# Altium footprint library Switches.PcbLib: 6 footprints
Each footprint in its own frame and in the unit in brackets; x right, y up, seen from the top. Pads: shape width x height; smd on the part's side, far side on the other; paste and mask are expansions set on the pad; w line width, h text height; cw(c..) or ccw(c..) is an arc to the next point about the centre after c.
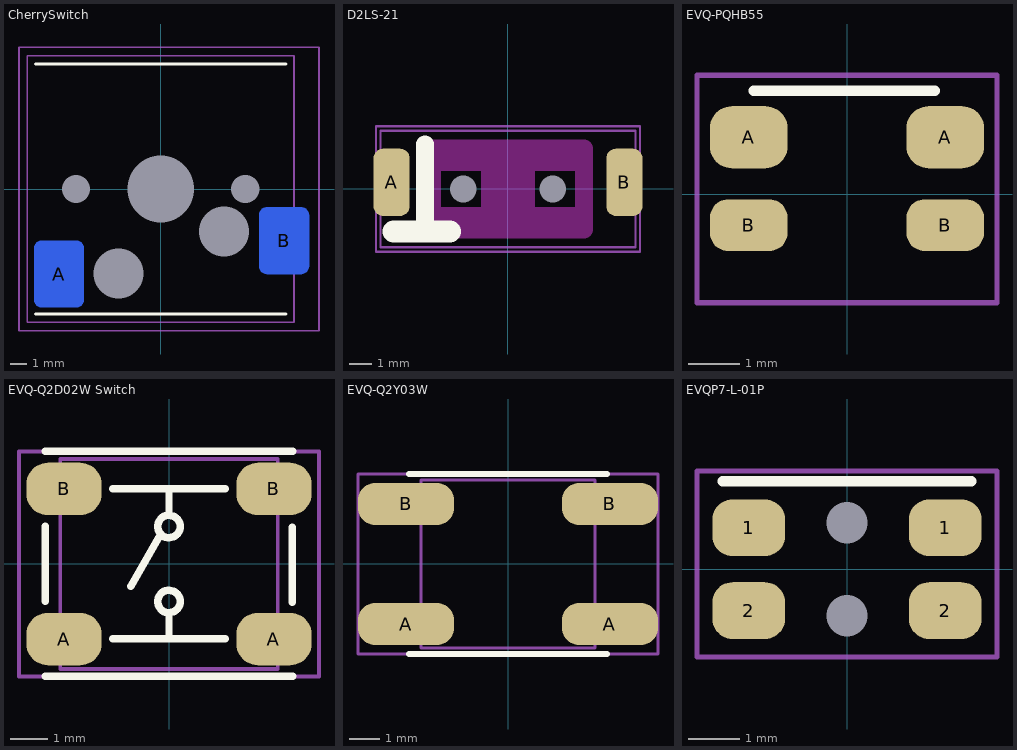
[diagram p0: the footprints below, top view; thin cyan lines are the x and y axes]

## CherrySwitch [mm]
height 3
pads (7):
  rrect30% 3x4 smd far side paste-0.15: A(-6.1,-5.1) B(7.4,-3.1)
  round 0 hole 1.7: ""(-5.08,0) ""(5.08,0)
  round 0 hole 3: ""(-2.54,-5.08) ""(3.81,-2.54)
  round 0 hole 4: ""(0,0)
Top Overlay:
  lines w0.2: -7.5,-7.5 7.5,-7.5 ; -7.5,7.5 7.5,7.5
Mechanical 15:
  lines w0.1: -8.5,-8.5 9.5,-8.5 9.5,8.5 -8.5,8.5 -8.5,-8.5
Assembly:
  lines w0.1: -8,-8 -8,8 8,8 8,-8 -8,-8
  text ".Designator" at -2.5,3 h1.1
3D body "MX Series-Cherry Key.stp": height 15.4, standoff -3.2, extent -7.8,-7.8 7.8,7.8
3D body "Kailh-Hotswap-from-datasheet.stp": height 0.05, standoff -3, extent -6.611,-6.716 7.889,-0.826

## D2LS-21 [mm]
height 3
pads (4):
  rrect50% 1.6x3 smd paste-0.04: A(-5.2,0.3) B(5.2,0.3)
  round 0 hole 1.2 unplated: ""(-2,0) ""(2,0)
Top Layer keep-out:
  lines w0.8: -3.4,-1.2 3.4,-1.2 ; -3.4,1.2 3.4,1.2 ; -0.8,-1.8 -0.8,1.8 ; 0,-1.7 0,1.8 ; 0.8,-1.7 0.8,1.8 ; -3.4,-1.8 3.4,-1.8 3.4,1.8 -3.4,1.8 -3.4,-1.8
Top Overlay:
  lines w0.8: -3.7,-2 -3.7,2
  lines w1: -5.1,-1.9 -2.6,-1.9
Top Solder:
  region: -3.4,2.1 3.4,2.1 3.46,2.1 3.57,2.054 3.654,1.97 3.7,1.86 3.7,1.8 3.7,-1.8 3.7,-1.86 3.654,-1.97 3.57,-2.054 3.46,-2.1 3.4,-2.1 -3.4,-2.1 -3.46,-2.1 -3.57,-2.054 -3.654,-1.97 -3.7,-1.86 -3.7,-1.8 -3.7,1.8 -3.7,1.86 -3.654,1.97 -3.57,2.054 -3.46,2.1
Mechanical 15:
  lines w0.1: -5.9,-2.8 5.9,-2.8 5.9,2.8 -5.9,2.8 -5.9,-2.8
Assembly:
  lines w0.1: -5.7,-2.6 -5.7,2.6 5.7,2.6 5.7,-2.6 -5.7,-2.6
  text ".Designator" at -5,-0.3 h1.1
3D body "D2LS_21.step": height 3.19, standoff -0.6, extent -5.6,-2.4 5.6,2.4

## EVQ-PQHB55 [mm]
height 2.4
pads (4):
  rrect70% 1.5x1.2 smd paste-0.06: A(-1.9,1.1) A(1.9,1.1)
  rrect70% 1.5x1 smd paste-0.06: B(-1.9,-0.6) B(1.9,-0.6)
Top Overlay:
  lines w0.2: -1.8,2 1.7,2
Mechanical 15:
  lines w0.1: -2.9,-2.1 2.9,-2.1 2.9,2.3 -2.9,2.3 -2.9,-2.1
Assembly:
  lines w0.1: -2.9,-2.1 -2.9,2.3 2.9,2.3 2.9,-2.1 -2.9,-2.1
  text ".Designator" at -2.1,-0.3 h1.1
3D body "EVQP7-JA-01P.STEP": height 1.35, standoff 0, extent -2.35,-1.9 2.35,1.65

## EVQ-Q2D02W Switch [mm] "Alternately: EVQP0N02B, EVQP0P02B, EVQQ2B02W"
height 2.5
pads (4):
  rrect80% 2x1.4 smd paste-0.08: A(-2.8,-2) A(2.8,-2) B(-2.8,2) B(2.8,2)
Top Overlay:
  circle w0.2: c0,-1 r0.3
  circle w0.2: c0,1 r0.3
  lines w0.2: -3.3,-3 3.3,-3 ; -3.3,-1 -3.3,1 ; -3.3,3 3.3,3 ; -1.5,-2 0,-2 ; -1.5,2 0,2 ; -1.025,-0.6 -0.225,0.8 ; 0,-1.4 0,-2 ; 0,1.4 0,2 ; 1.5,-2 0,-2 ; 1.5,2 0,2 ; 3.291,-1.02 3.291,0.98
Mechanical 15:
  lines w0.1: -2.9,-2.8 2.9,-2.8 2.9,2.8 -2.9,2.8 -2.9,-2.8
Assembly:
  lines w0.1: -4,-3 4,-3 4,3 -4,3 -4,-3
  text ".Designator" at -2.1,-0.3 h1.1
3D body "evqq2-dhmsw2-02w_.step": height 2.5, standoff 0, extent -3.3,-3 3.3,3

## EVQ-Q2Y03W [mm]
height 2.4
pads (4):
  rrect80% 3.2x1.4 smd paste-0.08: A(-3.4,-2) A(3.4,-2) B(-3.4,2) B(3.4,2)
Top Overlay:
  lines w0.2: -3.3,-3 3.3,-3 ; -3.3,3 3.3,3
Mechanical 15:
  lines w0.1: -2.9,-2.8 2.9,-2.8 2.9,2.8 -2.9,2.8 -2.9,-2.8
Assembly:
  lines w0.1: -5,-3 5,-3 5,3 -5,3 -5,-3
  text ".Designator" at -2.1,-0.3 h1.1
3D body "EVQQ2-BFKPUY-03W.STEP": height 3.1, standoff 0, extent -3.3,-3 3.3,3

## EVQP7-L-01P [mm]
pads (6):
  rrect70% 1.4x1.1 smd paste-0.06: 1(-1.9,0.8) 1(1.9,0.8) 2(-1.9,-0.8) 2(1.9,-0.8)
  round 0 hole 0.8 unplated: 5(0,-0.9) 5(0,0.9)
Top Overlay:
  lines w0.2: -2.4,1.7 2.4,1.7
Mechanical 15:
  lines w0.1: -2.9,-1.7 -2.9,1.9 2.9,1.9 2.9,-1.7 -2.9,-1.7
Assembly:
  lines w0.1: -2.9,-1.7 2.9,-1.7 2.9,1.9 -2.9,1.9 -2.9,-1.7
  text ".Designator" at -2.425,-0.3 h1.1
3D body "EVQP7-LC-01P.STEP": height 1.35, standoff -0.5, extent -2.35,-2.1 2.35,1.594